# Altium integrated library Capacitor - Aluminium TH.IntLib: 4591 symbols (part 64 of 68)
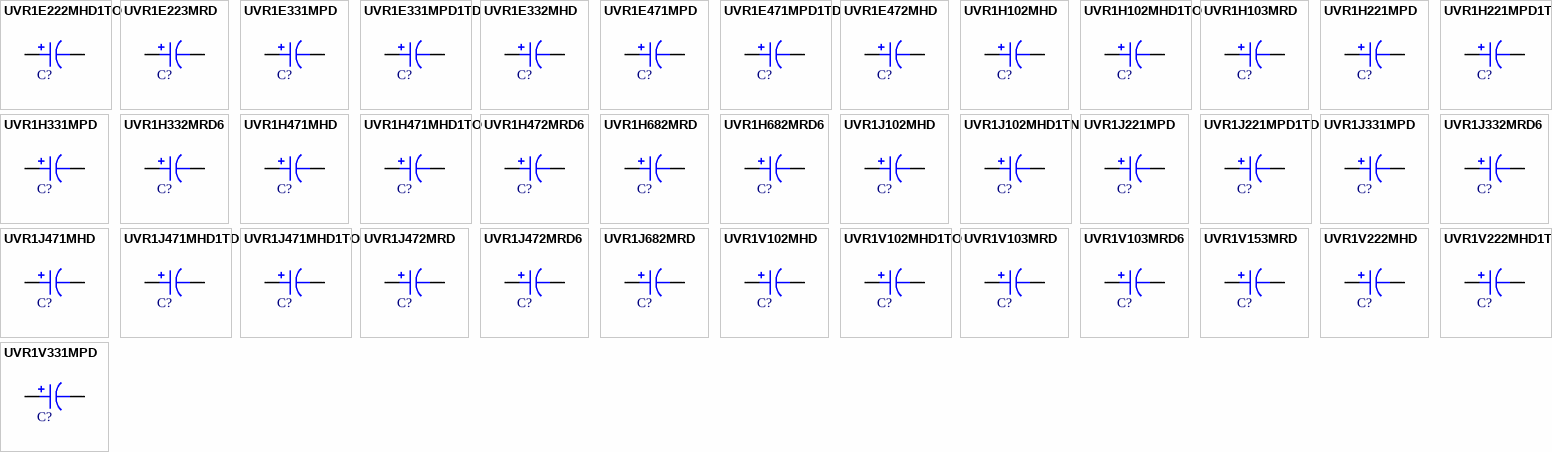
[diagram p177: symbols UVR1E222MHD1TO to UVR1V331MPD]

## UVR1V102MHD1TO
designator C?, comment 1000uF  (value not drawn)
CAP ALUM 1000UF 20% 35V RADIAL; Part Number: UVR1V102MHD1TO; Manufacturer: Nichicon; TemperatureRange: -40C ~ 85C; Type: Polar; Ripple Current: 1.15A; Value: 1000uF; PartId: 23125; Supplier 1: Digi-Key; Supplier Part Number 1: 493-5926-3-ND; ComponentLink1Description: Datasheet; ComponentLink1URL: http://nichicon-us.com/english/products/pdfs/e-uvr.pdf; ComponentLink2Description: Digi-Key Listing; ComponentLink2URL: https://www.digikey.com/product-detail/en/nichicon/UVR1V102MHD1TO/493-5926-3-ND/3438559; Tolerance: 20%; Voltage: 35V; Price: 0.2206; Device Package: Radial, Can, 12.5mm
footprint CAP AL TH D12.5 L5 H22
pins: 1, 2

## UVR1V103MRD
designator C?, comment 10000uF  (value not drawn)
CAP ALUM 10000UF 20% 35V RADIAL; Part Number: UVR1V103MRD; Manufacturer: Nichicon; TemperatureRange: -40C ~ 85C; Type: Polar; Ripple Current: 3.7A; Value: 10000uF; PartId: 27619; Supplier 1: Digi-Key; Supplier Part Number 1: 493-1092-ND; ComponentLink1Description: Datasheet; ComponentLink1URL: http://nichicon-us.com/english/products/pdfs/e-uvr.pdf; ComponentLink2Description: Digi-Key Listing; ComponentLink2URL: https://www.digikey.com/product-detail/en/nichicon/UVR1V103MRD/493-1092-ND/588833; Tolerance: 20%; Voltage: 35V; Price: 3.61; Device Package: Radial, Can, 22mm
footprint CAP AL TH D22 L10 H53
pins: 1, 2

## UVR1V103MRD6
designator C?, comment 10000uF  (value not drawn)
CAP ALUM 10000UF 20% 35V RADIAL; Part Number: UVR1V103MRD6; Manufacturer: Nichicon; TemperatureRange: -40C ~ 85C; Type: Polar; Ripple Current: 3.6A; Value: 10000uF; PartId: 27482; Supplier 1: Digi-Key; Supplier Part Number 1: 493-1093-ND; ComponentLink1Description: Datasheet; ComponentLink1URL: http://nichicon-us.com/english/products/pdfs/e-uvr.pdf; ComponentLink2Description: Digi-Key Listing; ComponentLink2URL: https://www.digikey.com/product-detail/en/nichicon/UVR1V103MRD6/493-1093-ND/588834; Tolerance: 20%; Voltage: 35V; Price: 3.74; Device Package: Radial, Can, 25mm
footprint CAP AL TH D25 L12.5 H42
pins: 1, 2

## UVR1V153MRD
designator C?, comment 15000uF  (value not drawn)
CAP ALUM 15000UF 20% 35V RADIAL; Part Number: UVR1V153MRD; Manufacturer: Nichicon; TemperatureRange: -40C ~ 85C; Type: Polar; Ripple Current: 4.3A; Value: 15000uF; PartId: 27498; Supplier 1: Digi-Key; Supplier Part Number 1: 493-1094-ND; ComponentLink1Description: Datasheet; ComponentLink1URL: http://nichicon-us.com/english/products/pdfs/e-uvr.pdf; ComponentLink2Description: Digi-Key Listing; ComponentLink2URL: https://www.digikey.com/product-detail/en/nichicon/UVR1V153MRD/493-1094-ND/588835; Tolerance: 20%; Voltage: 35V; Price: 3.84; Device Package: Radial, Can, 25mm
footprint CAP AL TH D25 L12.5 H52
pins: 1, 2

## UVR1V222MHD
designator C?, comment 2200uF  (value not drawn)
CAP ALUM 2200UF 20% 35V RADIAL; Part Number: UVR1V222MHD; Manufacturer: Nichicon; TemperatureRange: -40C ~ 85C; Type: Polar; Ripple Current: 1.8A; Value: 2200uF; PartId: 26825; Supplier 1: Digi-Key; Supplier Part Number 1: 493-1086-ND; ComponentLink1Description: Datasheet; ComponentLink1URL: http://nichicon-us.com/english/products/pdfs/e-uvr.pdf; ComponentLink2Description: Digi-Key Listing; ComponentLink2URL: https://www.digikey.com/product-detail/en/nichicon/UVR1V222MHD/493-1086-ND/588827; Tolerance: 20%; Voltage: 35V; Price: 0.98; Device Package: Radial, Can, 16mm
footprint CAP AL TH D16 L7.5 H27
pins: 1, 2

## UVR1V222MHD1TN
designator C?, comment 2200uF  (value not drawn)
CAP ALUM 2200UF 20% 35V RADIAL; Part Number: UVR1V222MHD1TN; Manufacturer: Nichicon; TemperatureRange: -40C ~ 85C; Type: Polar; Ripple Current: 1.8A; Value: 2200uF; PartId: 26737; Supplier 1: Digi-Key; Supplier Part Number 1: 493-12807-3-ND; ComponentLink1Description: Datasheet; ComponentLink1URL: http://nichicon-us.com/english/products/pdfs/e-uvr.pdf; ComponentLink2Description: Digi-Key Listing; ComponentLink2URL: https://www.digikey.com/product-detail/en/nichicon/UVR1V222MHD1TN/493-12807-3-ND/4329006; Tolerance: 20%; Voltage: 35V; Price: 0.4832; Device Package: Radial, Can, 16mm
footprint CAP AL TH D16 L7.5 H27
pins: 1, 2

## UVR1V331MPD
designator C?, comment 330uF  (value not drawn)
CAP ALUM 330UF 20% 35V RADIAL; Part Number: UVR1V331MPD; Manufacturer: Nichicon; TemperatureRange: -40C ~ 85C; Type: Polar; Ripple Current: 490mA; Value: 330uF; PartId: 24697; Supplier 1: Digi-Key; Supplier Part Number 1: 493-1083-ND; ComponentLink1Description: Datasheet; ComponentLink1URL: http://nichicon-us.com/english/products/pdfs/e-uvr.pdf; ComponentLink2Description: Digi-Key Listing; ComponentLink2URL: https://www.digikey.com/product-detail/en/nichicon/UVR1V331MPD/493-1083-ND/588824; Tolerance: 20%; Voltage: 35V; Price: 0.37; Device Package: Radial, Can, 10mm
footprint CAP AL TH D10 L5 H14.5
pins: 1, 2

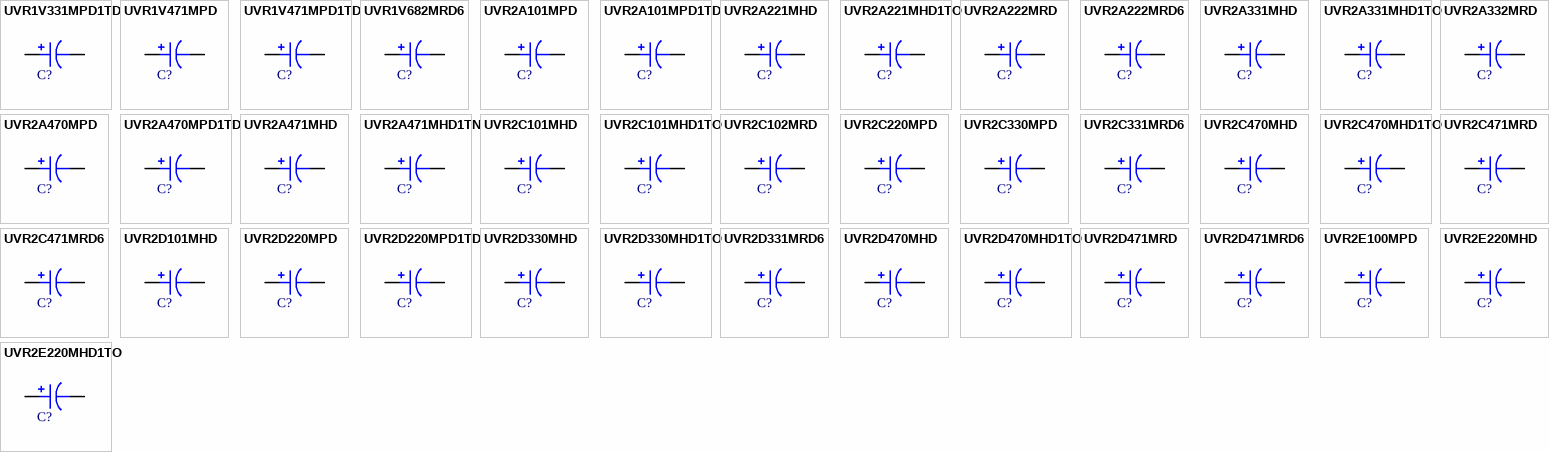
[diagram p107: symbols UVR1V331MPD1TD to UVR2E220MHD1TO]

## UVR1V331MPD1TD
designator C?, comment 330uF  (value not drawn)
CAP ALUM 330UF 20% 35V RADIAL; Part Number: UVR1V331MPD1TD; Manufacturer: Nichicon; TemperatureRange: -40C ~ 85C; Type: Polar; Ripple Current: 490mA; Value: 330uF; PartId: 24502; Supplier 1: Digi-Key; Supplier Part Number 1: 493-5929-3-ND; ComponentLink1Description: Datasheet; ComponentLink1URL: http://nichicon-us.com/english/products/pdfs/e-uvr.pdf; ComponentLink2Description: Digi-Key Listing; ComponentLink2URL: https://www.digikey.com/product-detail/en/nichicon/UVR1V331MPD1TD/493-5929-3-ND/3438562; Tolerance: 20%; Voltage: 35V; Price: 0.1147; Device Package: Radial, Can, 10mm
footprint CAP AL TH D10 L5 H14.5
pins: 1, 2

## UVR1V471MPD
designator C?, comment 470uF  (value not drawn)
CAP ALUM 470UF 20% 35V RADIAL; Part Number: UVR1V471MPD; Manufacturer: Nichicon; TemperatureRange: -40C ~ 85C; Type: Polar; Ripple Current: 650mA; Value: 470uF; PartId: 25159; Supplier 1: Digi-Key; Supplier Part Number 1: 493-1084-ND; ComponentLink1Description: Datasheet; ComponentLink1URL: http://nichicon-us.com/english/products/pdfs/e-uvr.pdf; ComponentLink2Description: Digi-Key Listing; ComponentLink2URL: https://www.digikey.com/product-detail/en/nichicon/UVR1V471MPD/493-1084-ND/588825; Tolerance: 20%; Voltage: 35V; Price: 0.44; Device Package: Radial, Can, 10mm
footprint CAP AL TH D10 L5 H17.5
pins: 1, 2

## UVR1V471MPD1TD
designator C?, comment 470uF  (value not drawn)
CAP ALUM 470UF 20% 35V RADIAL; Part Number: UVR1V471MPD1TD; Manufacturer: Nichicon; TemperatureRange: -40C ~ 85C; Type: Polar; Ripple Current: 650mA; Value: 470uF; PartId: 24992; Supplier 1: Digi-Key; Supplier Part Number 1: 493-5931-3-ND; ComponentLink1Description: Datasheet; ComponentLink1URL: http://nichicon-us.com/english/products/pdfs/e-uvr.pdf; ComponentLink2Description: Digi-Key Listing; ComponentLink2URL: https://www.digikey.com/product-detail/en/nichicon/UVR1V471MPD1TD/493-5931-3-ND/3438564; Tolerance: 20%; Voltage: 35V; Price: 0.1363; Device Package: Radial, Can, 10mm
footprint CAP AL TH D10 L5 H17.5
pins: 1, 2

## UVR1V682MRD6
designator C?, comment 6800uF  (value not drawn)
CAP ALUM 6800UF 20% 35V RADIAL; Part Number: UVR1V682MRD6; Manufacturer: Nichicon; TemperatureRange: -40C ~ 85C; Type: Polar; Ripple Current: 2.9A; Value: 6800uF; PartId: 27476; Supplier 1: Digi-Key; Supplier Part Number 1: 493-1091-ND; ComponentLink1Description: Datasheet; ComponentLink1URL: http://nichicon-us.com/english/products/pdfs/e-uvr.pdf; ComponentLink2Description: Digi-Key Listing; ComponentLink2URL: https://www.digikey.com/product-detail/en/nichicon/UVR1V682MRD6/493-1091-ND/588832; Tolerance: 20%; Voltage: 35V; Price: 3.1; Device Package: Radial, Can, 25mm
footprint CAP AL TH D25 L12.5 H32
pins: 1, 2

## UVR2A101MPD
designator C?, comment 100uF  (value not drawn)
CAP ALUM 100UF 20% 100V RADIAL; Part Number: UVR2A101MPD; Manufacturer: Nichicon; TemperatureRange: -40C ~ 85C; Type: Polar; Ripple Current: 370mA; Value: 100uF; PartId: 25842; Supplier 1: Digi-Key; Supplier Part Number 1: 493-1148-ND; ComponentLink1Description: Datasheet; ComponentLink1URL: http://nichicon-us.com/english/products/pdfs/e-uvr.pdf; ComponentLink2Description: Digi-Key Listing; ComponentLink2URL: https://www.digikey.com/product-detail/en/nichicon/UVR2A101MPD/493-1148-ND/588889; Tolerance: 20%; Voltage: 100V; Price: 0.5; Device Package: Radial, Can, 10mm
footprint CAP AL TH D10 L5 H22
pins: 1, 2

## UVR2A101MPD1TD
designator C?, comment 100uF  (value not drawn)
CAP ALUM 100UF 20% 100V RADIAL; Part Number: UVR2A101MPD1TD; Manufacturer: Nichicon; TemperatureRange: -40C ~ 85C; Type: Polar; Ripple Current: 370mA; Value: 100uF; PartId: 25730; Supplier 1: Digi-Key; Supplier Part Number 1: 493-12814-3-ND; ComponentLink1Description: Datasheet; ComponentLink1URL: http://nichicon-us.com/english/products/pdfs/e-uvr.pdf; ComponentLink2Description: Digi-Key Listing; ComponentLink2URL: https://www.digikey.com/product-detail/en/nichicon/UVR2A101MPD1TD/493-12814-3-ND/4329013; Tolerance: 20%; Voltage: 100V; Price: 0.1712; Device Package: Radial, Can, 10mm
footprint CAP AL TH D10 L5 H22
pins: 1, 2

## UVR2A221MHD
designator C?, comment 220uF  (value not drawn)
CAP ALUM 220UF 20% 100V RADIAL; Part Number: UVR2A221MHD; Manufacturer: Nichicon; TemperatureRange: -40C ~ 85C; Type: Polar; Ripple Current: 620mA; Value: 220uF; PartId: 23884; Supplier 1: Digi-Key; Supplier Part Number 1: 493-1149-ND; ComponentLink1Description: Datasheet; ComponentLink1URL: http://nichicon-us.com/english/products/pdfs/e-uvr.pdf; ComponentLink2Description: Digi-Key Listing; ComponentLink2URL: https://www.digikey.com/product-detail/en/nichicon/UVR2A221MHD/493-1149-ND/588890; Tolerance: 20%; Voltage: 100V; Price: 0.84; Device Package: Radial, Can, 12.5mm
footprint CAP AL TH D12.5 L5 H27
pins: 1, 2

## UVR2A221MHD1TO
designator C?, comment 220uF  (value not drawn)
CAP ALUM 220UF 20% 100V RADIAL; Part Number: UVR2A221MHD1TO; Manufacturer: Nichicon; TemperatureRange: -40C ~ 85C; Type: Polar; Ripple Current: 620mA; Value: 220uF; PartId: 23799; Supplier 1: Digi-Key; Supplier Part Number 1: 493-12816-3-ND; ComponentLink1Description: Datasheet; ComponentLink1URL: http://nichicon-us.com/english/products/pdfs/e-uvr.pdf; ComponentLink2Description: Digi-Key Listing; ComponentLink2URL: https://www.digikey.com/product-detail/en/nichicon/UVR2A221MHD1TO/493-12816-3-ND/4329015; Tolerance: 20%; Voltage: 100V; Price: 0.3378; Device Package: Radial, Can, 12.5mm
footprint CAP AL TH D12.5 L5 H27
pins: 1, 2

## UVR2A222MRD
designator C?, comment 2200uF  (value not drawn)
CAP ALUM 2200UF 20% 100V RADIAL; Part Number: UVR2A222MRD; Manufacturer: Nichicon; TemperatureRange: -40C ~ 85C; Type: Polar; Ripple Current: 2.4A; Value: 2200uF; PartId: 27612; Supplier 1: Digi-Key; Supplier Part Number 1: 493-1153-ND; ComponentLink1Description: Datasheet; ComponentLink1URL: http://nichicon-us.com/english/products/pdfs/e-uvr.pdf; ComponentLink2Description: Digi-Key Listing; ComponentLink2URL: https://www.digikey.com/product-detail/en/nichicon/UVR2A222MRD/493-1153-ND/588894; Tolerance: 20%; Voltage: 100V; Price: 4.05; Device Package: Radial, Can, 22mm
footprint CAP AL TH D22 L10 H53
pins: 1, 2

## UVR2A222MRD6
designator C?, comment 2200uF  (value not drawn)
CAP ALUM 2200UF 20% 100V RADIAL; Part Number: UVR2A222MRD6; Manufacturer: Nichicon; TemperatureRange: -40C ~ 85C; Type: Polar; Ripple Current: 2.4A; Value: 2200uF; PartId: 27483; Supplier 1: Digi-Key; Supplier Part Number 1: 493-1154-ND; ComponentLink1Description: Datasheet; ComponentLink1URL: http://nichicon-us.com/english/products/pdfs/e-uvr.pdf; ComponentLink2Description: Digi-Key Listing; ComponentLink2URL: https://www.digikey.com/product-detail/en/nichicon/UVR2A222MRD6/493-1154-ND/588895; Tolerance: 20%; Voltage: 100V; Price: 4.05; Device Package: Radial, Can, 25mm
footprint CAP AL TH D25 L12.5 H42
pins: 1, 2

## UVR2A331MHD
designator C?, comment 330uF  (value not drawn)
CAP ALUM 330UF 20% 100V RADIAL; Part Number: UVR2A331MHD; Manufacturer: Nichicon; TemperatureRange: -40C ~ 85C; Type: Polar; Ripple Current: 760mA; Value: 330uF; PartId: 23538; Supplier 1: Digi-Key; Supplier Part Number 1: 493-1150-ND; ComponentLink1Description: Datasheet; ComponentLink1URL: http://nichicon-us.com/english/products/pdfs/e-uvr.pdf; ComponentLink2Description: Digi-Key Listing; ComponentLink2URL: https://www.digikey.com/product-detail/en/nichicon/UVR2A331MHD/493-1150-ND/588891; Tolerance: 20%; Voltage: 100V; Price: 0.75; Device Package: Radial, Can, 12.5mm
footprint CAP AL TH D12.5 L5 H25
pins: 1, 2

## UVR2A331MHD1TO
designator C?, comment 330uF  (value not drawn)
CAP ALUM 330UF 20% 100V RADIAL; Part Number: UVR2A331MHD1TO; Manufacturer: Nichicon; TemperatureRange: -40C ~ 85C; Type: Polar; Ripple Current: 760mA; Value: 330uF; PartId: 24048; Supplier 1: Digi-Key; Supplier Part Number 1: 493-12819-1-ND; ComponentLink1Description: Datasheet; ComponentLink1URL: http://nichicon-us.com/english/products/pdfs/e-uvr.pdf; ComponentLink2Description: Digi-Key Listing; ComponentLink2URL: https://www.digikey.com/product-detail/en/nichicon/UVR2A331MHD1TO/493-12819-1-ND/4328387; Tolerance: 20%; Voltage: 100V; Price: 1.14; Device Package: Radial, Can, 12.5mm
footprint CAP AL TH D12.5 L5 H27
pins: 1, 2

## UVR2A332MRD
designator C?, comment 3300uF  (value not drawn)
CAP ALUM 3300UF 20% 100V RADIAL; Part Number: UVR2A332MRD; Manufacturer: Nichicon; TemperatureRange: -40C ~ 85C; Type: Polar; Ripple Current: 2.9A; Value: 3300uF; PartId: 27500; Supplier 1: Digi-Key; Supplier Part Number 1: 493-1155-ND; ComponentLink1Description: Datasheet; ComponentLink1URL: http://nichicon-us.com/english/products/pdfs/e-uvr.pdf; ComponentLink2Description: Digi-Key Listing; ComponentLink2URL: https://www.digikey.com/product-detail/en/nichicon/UVR2A332MRD/493-1155-ND/588896; Tolerance: 20%; Voltage: 100V; Price: 5.9; Device Package: Radial, Can, 25mm
footprint CAP AL TH D25 L12.5 H52
pins: 1, 2

## UVR2A470MPD
designator C?, comment 47uF  (value not drawn)
CAP ALUM 47UF 20% 100V RADIAL; Part Number: UVR2A470MPD; Manufacturer: Nichicon; TemperatureRange: -40C ~ 85C; Type: Polar; Ripple Current: 230mA; Value: 47uF; PartId: 24684; Supplier 1: Digi-Key; Supplier Part Number 1: 493-1147-ND; ComponentLink1Description: Datasheet; ComponentLink1URL: http://nichicon-us.com/english/products/pdfs/e-uvr.pdf; ComponentLink2Description: Digi-Key Listing; ComponentLink2URL: https://www.digikey.com/product-detail/en/nichicon/UVR2A470MPD/493-1147-ND/588888; Tolerance: 20%; Voltage: 100V; Price: 0.34; Device Package: Radial, Can, 10mm
footprint CAP AL TH D10 L5 H14.5
pins: 1, 2

## UVR2A470MPD1TD
designator C?, comment 47uF  (value not drawn)
CAP ALUM 47UF 20% 100V RADIAL; Part Number: UVR2A470MPD1TD; Manufacturer: Nichicon; TemperatureRange: -40C ~ 85C; Type: Polar; Ripple Current: 230mA; Value: 47uF; PartId: 24494; Supplier 1: Digi-Key; Supplier Part Number 1: 493-12821-3-ND; ComponentLink1Description: Datasheet; ComponentLink1URL: http://nichicon-us.com/english/products/pdfs/e-uvr.pdf; ComponentLink2Description: Digi-Key Listing; ComponentLink2URL: https://www.digikey.com/product-detail/en/nichicon/UVR2A470MPD1TD/493-12821-3-ND/4329020; Tolerance: 20%; Voltage: 100V; Price: 0.1057; Device Package: Radial, Can, 10mm
footprint CAP AL TH D10 L5 H14.5
pins: 1, 2

## UVR2A471MHD
designator C?, comment 470uF  (value not drawn)
CAP ALUM 470UF 20% 100V RADIAL; Part Number: UVR2A471MHD; Manufacturer: Nichicon; TemperatureRange: -40C ~ 85C; Type: Polar; Ripple Current: 1A; Value: 470uF; PartId: 26856; Supplier 1: Digi-Key; Supplier Part Number 1: 493-1151-ND; ComponentLink1Description: Datasheet; ComponentLink1URL: http://nichicon-us.com/english/products/pdfs/e-uvr.pdf; ComponentLink2Description: Digi-Key Listing; ComponentLink2URL: https://www.digikey.com/product-detail/en/nichicon/UVR2A471MHD/493-1151-ND/588892; Tolerance: 20%; Voltage: 100V; Price: 1.17; Device Package: Radial, Can, 16mm
footprint CAP AL TH D16 L7.5 H27
pins: 1, 2

## UVR2A471MHD1TN
designator C?, comment 470uF  (value not drawn)
CAP ALUM 470UF 20% 100V RADIAL; Part Number: UVR2A471MHD1TN; Manufacturer: Nichicon; TemperatureRange: -40C ~ 85C; Type: Polar; Ripple Current: 1A; Value: 470uF; PartId: 26771; Supplier 1: Digi-Key; Supplier Part Number 1: 493-12822-3-ND; ComponentLink1Description: Datasheet; ComponentLink1URL: http://nichicon-us.com/english/products/pdfs/e-uvr.pdf; ComponentLink2Description: Digi-Key Listing; ComponentLink2URL: https://www.digikey.com/product-detail/en/nichicon/UVR2A471MHD1TN/493-12822-3-ND/4329021; Tolerance: 20%; Voltage: 100V; Price: 0.6184; Device Package: Radial, Can, 16mm
footprint CAP AL TH D16 L7.5 H27
pins: 1, 2

## UVR2C101MHD
designator C?, comment 100uF  (value not drawn)
CAP ALUM 100UF 20% 160V RADIAL; Part Number: UVR2C101MHD; Manufacturer: Nichicon; TemperatureRange: -40C ~ 85C; Type: Polar; Ripple Current: 430mA; Value: 100uF; PartId: 23871; Supplier 1: Digi-Key; Supplier Part Number 1: 493-1165-ND; ComponentLink1Description: Datasheet; ComponentLink1URL: http://nichicon-us.com/english/products/pdfs/e-uvr.pdf; ComponentLink2Description: Digi-Key Listing; ComponentLink2URL: https://www.digikey.com/product-detail/en/nichicon/UVR2C101MHD/493-1165-ND/588906; Tolerance: 20%; Voltage: 160V; Price: 0.81; Device Package: Radial, Can, 12.5mm
footprint CAP AL TH D12.5 L5 H27
pins: 1, 2

## UVR2C101MHD1TO
designator C?, comment 100uF  (value not drawn)
CAP ALUM 100UF 20% 160V RADIAL; Part Number: UVR2C101MHD1TO; Manufacturer: Nichicon; TemperatureRange: -40C ~ 85C; Type: Polar; Ripple Current: 430mA; Value: 100uF; PartId: 23800; Supplier 1: Digi-Key; Supplier Part Number 1: 493-12829-3-ND; ComponentLink1Description: Datasheet; ComponentLink1URL: http://nichicon-us.com/english/products/pdfs/e-uvr.pdf; ComponentLink2Description: Digi-Key Listing; ComponentLink2URL: https://www.digikey.com/product-detail/en/nichicon/UVR2C101MHD1TO/493-12829-3-ND/4329028; Tolerance: 20%; Voltage: 160V; Price: 0.3398; Device Package: Radial, Can, 12.5mm
footprint CAP AL TH D12.5 L5 H27
pins: 1, 2

## UVR2C102MRD
designator C?, comment 1000uF  (value not drawn)
CAP ALUM 1000UF 20% 160V RADIAL; Part Number: UVR2C102MRD; Manufacturer: Nichicon; TemperatureRange: -40C ~ 85C; Type: Polar; Ripple Current: 1.9A; Value: 1000uF; PartId: 27517; Supplier 1: Digi-Key; Supplier Part Number 1: 493-1171-ND; ComponentLink1Description: Datasheet; ComponentLink1URL: http://nichicon-us.com/english/products/pdfs/e-uvr.pdf; ComponentLink2Description: Digi-Key Listing; ComponentLink2URL: https://www.digikey.com/product-detail/en/nichicon/UVR2C102MRD/493-1171-ND/588912; Tolerance: 20%; Voltage: 160V; Price: 4.45; Device Package: Radial, Can, 25mm
footprint CAP AL TH D25 L12.5 H52
pins: 1, 2

## UVR2C220MPD
designator C?, comment 22uF  (value not drawn)
CAP ALUM 22UF 20% 160V RADIAL; Part Number: UVR2C220MPD; Manufacturer: Nichicon; TemperatureRange: -40C ~ 85C; Type: Polar; Ripple Current: 155mA; Value: 22uF; PartId: 25188; Supplier 1: Digi-Key; Supplier Part Number 1: 493-1162-ND; ComponentLink1Description: Datasheet; ComponentLink1URL: http://nichicon-us.com/english/products/pdfs/e-uvr.pdf; ComponentLink2Description: Digi-Key Listing; ComponentLink2URL: https://www.digikey.com/product-detail/en/nichicon/UVR2C220MPD/493-1162-ND/588903; Tolerance: 20%; Voltage: 160V; Price: 0.48; Device Package: Radial, Can, 10mm
footprint CAP AL TH D10 L5 H17.5
pins: 1, 2

## UVR2C330MPD
designator C?, comment 33uF  (value not drawn)
CAP ALUM 33UF 20% 160V RADIAL; Part Number: UVR2C330MPD; Manufacturer: Nichicon; TemperatureRange: -40C ~ 85C; Type: Polar; Ripple Current: 205mA; Value: 33uF; PartId: 25843; Supplier 1: Digi-Key; Supplier Part Number 1: 493-1163-ND; ComponentLink1Description: Datasheet; ComponentLink1URL: http://nichicon-us.com/english/products/pdfs/e-uvr.pdf; ComponentLink2Description: Digi-Key Listing; ComponentLink2URL: https://www.digikey.com/product-detail/en/nichicon/UVR2C330MPD/493-1163-ND/588904; Tolerance: 20%; Voltage: 160V; Price: 0.5; Device Package: Radial, Can, 10mm
footprint CAP AL TH D10 L5 H22
pins: 1, 2

## UVR2C331MRD6
designator C?, comment 330uF  (value not drawn)
CAP ALUM 330UF 20% 160V RADIAL; Part Number: UVR2C331MRD6; Manufacturer: Nichicon; TemperatureRange: -40C ~ 85C; Type: Polar; Ripple Current: 900mA; Value: 330uF; PartId: 27569; Supplier 1: Digi-Key; Supplier Part Number 1: 493-1168-ND; ComponentLink1Description: Datasheet; ComponentLink1URL: http://nichicon-us.com/english/products/pdfs/e-uvr.pdf; ComponentLink2Description: Digi-Key Listing; ComponentLink2URL: https://www.digikey.com/product-detail/en/nichicon/UVR2C331MRD6/493-1168-ND/588909; Tolerance: 20%; Voltage: 160V; Price: 2.26; Device Package: Radial, Can, 22mm
footprint CAP AL TH D22 L10 H33
pins: 1, 2

## UVR2C470MHD
designator C?, comment 47uF  (value not drawn)
CAP ALUM 47UF 20% 160V RADIAL; Part Number: UVR2C470MHD; Manufacturer: Nichicon; TemperatureRange: -40C ~ 85C; Type: Polar; Ripple Current: 270mA; Value: 47uF; PartId: 23209; Supplier 1: Digi-Key; Supplier Part Number 1: 493-1164-ND; ComponentLink1Description: Datasheet; ComponentLink1URL: http://nichicon-us.com/english/products/pdfs/e-uvr.pdf; ComponentLink2Description: Digi-Key Listing; ComponentLink2URL: https://www.digikey.com/product-detail/en/nichicon/UVR2C470MHD/493-1164-ND/588905; Tolerance: 20%; Voltage: 160V; Price: 0.61; Device Package: Radial, Can, 12.5mm
footprint CAP AL TH D12.5 L5 H22
pins: 1, 2

## UVR2C470MHD1TO
designator C?, comment 47uF  (value not drawn)
CAP ALUM 47UF 20% 160V RADIAL; Part Number: UVR2C470MHD1TO; Manufacturer: Nichicon; TemperatureRange: -40C ~ 85C; Type: Polar; Ripple Current: 270mA; Value: 47uF; PartId: 23240; Supplier 1: Digi-Key; Supplier Part Number 1: 493-12834-1-ND; ComponentLink1Description: Datasheet; ComponentLink1URL: http://nichicon-us.com/english/products/pdfs/e-uvr.pdf; ComponentLink2Description: Digi-Key Listing; ComponentLink2URL: https://www.digikey.com/product-detail/en/nichicon/UVR2C470MHD1TO/493-12834-1-ND/4328414; Tolerance: 20%; Voltage: 160V; Price: 0.68; Device Package: Radial, Can, 12.5mm
footprint CAP AL TH D12.5 L5 H22
pins: 1, 2

## UVR2C471MRD
designator C?, comment 470uF  (value not drawn)
CAP ALUM 470UF 20% 160V RADIAL; Part Number: UVR2C471MRD; Manufacturer: Nichicon; TemperatureRange: -40C ~ 85C; Type: Polar; Ripple Current: 1.41A; Value: 470uF; PartId: 27588; Supplier 1: Digi-Key; Supplier Part Number 1: 493-1169-ND; ComponentLink1Description: Datasheet; ComponentLink1URL: http://nichicon-us.com/english/products/pdfs/e-uvr.pdf; ComponentLink2Description: Digi-Key Listing; ComponentLink2URL: https://www.digikey.com/product-detail/en/nichicon/UVR2C471MRD/493-1169-ND/588910; Tolerance: 20%; Voltage: 160V; Price: 2.82; Device Package: Radial, Can, 22mm
footprint CAP AL TH D22 L10 H43
pins: 1, 2

## UVR2C471MRD6
designator C?, comment 470uF  (value not drawn)
CAP ALUM 470UF 20% 160V RADIAL; Part Number: UVR2C471MRD6; Manufacturer: Nichicon; TemperatureRange: -40C ~ 85C; Type: Polar; Ripple Current: 1.29A; Value: 470uF; PartId: 27481; Supplier 1: Digi-Key; Supplier Part Number 1: 493-1170-ND; ComponentLink1Description: Datasheet; ComponentLink1URL: http://nichicon-us.com/english/products/pdfs/e-uvr.pdf; ComponentLink2Description: Digi-Key Listing; ComponentLink2URL: https://www.digikey.com/product-detail/en/nichicon/UVR2C471MRD6/493-1170-ND/588911; Tolerance: 20%; Voltage: 160V; Price: 3.07; Device Package: Radial, Can, 25mm
footprint CAP AL TH D25 L12.5 H32
pins: 1, 2

## UVR2D101MHD
designator C?, comment 100uF  (value not drawn)
CAP ALUM 100UF 20% 200V RADIAL; Part Number: UVR2D101MHD; Manufacturer: Nichicon; TemperatureRange: -40C ~ 85C; Type: Polar; Ripple Current: 530mA; Value: 100uF; PartId: 27007; Supplier 1: Digi-Key; Supplier Part Number 1: 493-1181-ND; ComponentLink1Description: Datasheet; ComponentLink1URL: http://nichicon-us.com/english/products/pdfs/e-uvr.pdf; ComponentLink2Description: Digi-Key Listing; ComponentLink2URL: https://www.digikey.com/product-detail/en/nichicon/UVR2D101MHD/493-1181-ND/588922; Tolerance: 20%; Voltage: 200V; Price: 1.38; Device Package: Radial, Can, 16mm
footprint CAP AL TH D16 L7.5 H33.5
pins: 1, 2

## UVR2D220MPD
designator C?, comment 22uF  (value not drawn)
CAP ALUM 22UF 20% 200V RADIAL; Part Number: UVR2D220MPD; Manufacturer: Nichicon; TemperatureRange: -40C ~ 85C; Type: Polar; Ripple Current: 170mA; Value: 22uF; PartId: 25838; Supplier 1: Digi-Key; Supplier Part Number 1: 493-1178-ND; ComponentLink1Description: Datasheet; ComponentLink1URL: http://nichicon-us.com/english/products/pdfs/e-uvr.pdf; ComponentLink2Description: Digi-Key Listing; ComponentLink2URL: https://www.digikey.com/product-detail/en/nichicon/UVR2D220MPD/493-1178-ND/588919; Tolerance: 20%; Voltage: 200V; Price: 0.45; Device Package: Radial, Can, 10mm
footprint CAP AL TH D10 L5 H22
pins: 1, 2

## UVR2D220MPD1TD
designator C?, comment 22uF  (value not drawn)
CAP ALUM 22UF 20% 200V RADIAL; Part Number: UVR2D220MPD1TD; Manufacturer: Nichicon; TemperatureRange: -40C ~ 85C; Type: Polar; Ripple Current: 170mA; Value: 22uF; PartId: 25728; Supplier 1: Digi-Key; Supplier Part Number 1: 493-12838-3-ND; ComponentLink1Description: Datasheet; ComponentLink1URL: http://nichicon-us.com/english/products/pdfs/e-uvr.pdf; ComponentLink2Description: Digi-Key Listing; ComponentLink2URL: https://www.digikey.com/product-detail/en/nichicon/UVR2D220MPD1TD/493-12838-3-ND/4329037; Tolerance: 20%; Voltage: 200V; Price: 0.1562; Device Package: Radial, Can, 10mm
footprint CAP AL TH D10 L5 H22
pins: 1, 2

## UVR2D330MHD
designator C?, comment 33uF  (value not drawn)
CAP ALUM 33UF 20% 200V RADIAL; Part Number: UVR2D330MHD; Manufacturer: Nichicon; TemperatureRange: -40C ~ 85C; Type: Polar; Ripple Current: 230mA; Value: 33uF; PartId: 23223; Supplier 1: Digi-Key; Supplier Part Number 1: 493-1179-ND; ComponentLink1Description: Datasheet; ComponentLink1URL: http://nichicon-us.com/english/products/pdfs/e-uvr.pdf; ComponentLink2Description: Digi-Key Listing; ComponentLink2URL: https://www.digikey.com/product-detail/en/nichicon/UVR2D330MHD/493-1179-ND/588920; Tolerance: 20%; Voltage: 200V; Price: 0.64; Device Package: Radial, Can, 12.5mm
footprint CAP AL TH D12.5 L5 H22
pins: 1, 2

## UVR2D330MHD1TO
designator C?, comment 33uF  (value not drawn)
CAP ALUM 33UF 20% 200V RADIAL; Part Number: UVR2D330MHD1TO; Manufacturer: Nichicon; TemperatureRange: -40C ~ 85C; Type: Polar; Ripple Current: 230mA; Value: 33uF; PartId: 23138; Supplier 1: Digi-Key; Supplier Part Number 1: 493-12840-3-ND; ComponentLink1Description: Datasheet; ComponentLink1URL: http://nichicon-us.com/english/products/pdfs/e-uvr.pdf; ComponentLink2Description: Digi-Key Listing; ComponentLink2URL: https://www.digikey.com/product-detail/en/nichicon/UVR2D330MHD1TO/493-12840-3-ND/4329039; Tolerance: 20%; Voltage: 200V; Price: 0.2567; Device Package: Radial, Can, 12.5mm
footprint CAP AL TH D12.5 L5 H22
pins: 1, 2

## UVR2D331MRD6
designator C?, comment 330uF  (value not drawn)
CAP ALUM 330UF 20% 200V RADIAL; Part Number: UVR2D331MRD6; Manufacturer: Nichicon; TemperatureRange: -40C ~ 85C; Type: Polar; Ripple Current: 1.09A; Value: 330uF; PartId: 27475; Supplier 1: Digi-Key; Supplier Part Number 1: 493-1184-ND; ComponentLink1Description: Datasheet; ComponentLink1URL: http://nichicon-us.com/english/products/pdfs/e-uvr.pdf; ComponentLink2Description: Digi-Key Listing; ComponentLink2URL: https://www.digikey.com/product-detail/en/nichicon/UVR2D331MRD6/493-1184-ND/588925; Tolerance: 20%; Voltage: 200V; Price: 3.53; Device Package: Radial, Can, 25mm
footprint CAP AL TH D25 L12.5 H32
pins: 1, 2

## UVR2D470MHD
designator C?, comment 47uF  (value not drawn)
CAP ALUM 47UF 20% 200V RADIAL; Part Number: UVR2D470MHD; Manufacturer: Nichicon; TemperatureRange: -40C ~ 85C; Type: Polar; Ripple Current: 270mA; Value: 47uF; PartId: 23248; Supplier 1: Digi-Key; Supplier Part Number 1: 493-1180-ND; ComponentLink1Description: Datasheet; ComponentLink1URL: http://nichicon-us.com/english/products/pdfs/e-uvr.pdf; ComponentLink2Description: Digi-Key Listing; ComponentLink2URL: https://www.digikey.com/product-detail/en/nichicon/UVR2D470MHD/493-1180-ND/588921; Tolerance: 20%; Voltage: 200V; Price: 0.7; Device Package: Radial, Can, 12.5mm
footprint CAP AL TH D12.5 L5 H22
pins: 1, 2

## UVR2D470MHD1TO
designator C?, comment 47uF  (value not drawn)
CAP ALUM 47UF 20% 200V RADIAL; Part Number: UVR2D470MHD1TO; Manufacturer: Nichicon; TemperatureRange: -40C ~ 85C; Type: Polar; Ripple Current: 270mA; Value: 47uF; PartId: 23132; Supplier 1: Digi-Key; Supplier Part Number 1: 493-12842-3-ND; ComponentLink1Description: Datasheet; ComponentLink1URL: http://nichicon-us.com/english/products/pdfs/e-uvr.pdf; ComponentLink2Description: Digi-Key Listing; ComponentLink2URL: https://www.digikey.com/product-detail/en/nichicon/UVR2D470MHD1TO/493-12842-3-ND/4329041; Tolerance: 20%; Voltage: 200V; Price: 0.2422; Device Package: Radial, Can, 12.5mm
footprint CAP AL TH D12.5 L5 H22
pins: 1, 2

## UVR2D471MRD
designator C?, comment 470uF  (value not drawn)
CAP ALUM 470UF 20% 200V RADIAL; Part Number: UVR2D471MRD; Manufacturer: Nichicon; TemperatureRange: -40C ~ 85C; Type: Polar; Ripple Current: 1.49A; Value: 470uF; PartId: 27637; Supplier 1: Digi-Key; Supplier Part Number 1: 493-1185-ND; ComponentLink1Description: Datasheet; ComponentLink1URL: http://nichicon-us.com/english/products/pdfs/e-uvr.pdf; ComponentLink2Description: Digi-Key Listing; ComponentLink2URL: https://www.digikey.com/product-detail/en/nichicon/UVR2D471MRD/493-1185-ND/588926; Tolerance: 20%; Voltage: 200V; Price: 3.85; Device Package: Radial, Can, 22mm
footprint CAP AL TH D22 L10 H53
pins: 1, 2

## UVR2D471MRD6
designator C?, comment 470uF  (value not drawn)
CAP ALUM 470UF 20% 200V RADIAL; Part Number: UVR2D471MRD6; Manufacturer: Nichicon; TemperatureRange: -40C ~ 85C; Type: Polar; Ripple Current: 1.55A; Value: 470uF; PartId: 27497; Supplier 1: Digi-Key; Supplier Part Number 1: 493-1186-ND; ComponentLink1Description: Datasheet; ComponentLink1URL: http://nichicon-us.com/english/products/pdfs/e-uvr.pdf; ComponentLink2Description: Digi-Key Listing; ComponentLink2URL: https://www.digikey.com/product-detail/en/nichicon/UVR2D471MRD6/493-1186-ND/588927; Tolerance: 20%; Voltage: 200V; Price: 4.1; Device Package: Radial, Can, 25mm
footprint CAP AL TH D25 L12.5 H42
pins: 1, 2

## UVR2E100MPD
designator C?, comment 10uF  (value not drawn)
CAP ALUM 10UF 20% 250V RADIAL; Part Number: UVR2E100MPD; Manufacturer: Nichicon; TemperatureRange: -40C ~ 85C; Type: Polar; Ripple Current: 105mA; Value: 10uF; PartId: 25161; Supplier 1: Digi-Key; Supplier Part Number 1: 493-1192-ND; ComponentLink1Description: Datasheet; ComponentLink1URL: http://nichicon-us.com/english/products/pdfs/e-uvr.pdf; ComponentLink2Description: Digi-Key Listing; ComponentLink2URL: https://www.digikey.com/product-detail/en/nichicon/UVR2E100MPD/493-1192-ND/588933; Tolerance: 20%; Voltage: 250V; Price: 0.44; Device Package: Radial, Can, 10mm
footprint CAP AL TH D10 L5 H17.5
pins: 1, 2

## UVR2E220MHD
designator C?, comment 22uF  (value not drawn)
CAP ALUM 22UF 20% 250V RADIAL; Part Number: UVR2E220MHD; Manufacturer: Nichicon; TemperatureRange: -40C ~ 85C; Type: Polar; Ripple Current: 190mA; Value: 22uF; PartId: 23249; Supplier 1: Digi-Key; Supplier Part Number 1: 493-1193-ND; ComponentLink1Description: Datasheet; ComponentLink1URL: http://nichicon-us.com/english/products/pdfs/e-uvr.pdf; ComponentLink2Description: Digi-Key Listing; ComponentLink2URL: https://www.digikey.com/product-detail/en/nichicon/UVR2E220MHD/493-1193-ND/588934; Tolerance: 20%; Voltage: 250V; Price: 0.7; Device Package: Radial, Can, 12.5mm
footprint CAP AL TH D12.5 L5 H22
pins: 1, 2

## UVR2E220MHD1TO
designator C?, comment 22uF  (value not drawn)
CAP ALUM 22UF 20% 250V RADIAL; Part Number: UVR2E220MHD1TO; Manufacturer: Nichicon; TemperatureRange: -40C ~ 85C; Type: Polar; Ripple Current: 190mA; Value: 22uF; PartId: 23224; Supplier 1: Digi-Key; Supplier Part Number 1: 493-12847-1-ND; ComponentLink1Description: Datasheet; ComponentLink1URL: http://nichicon-us.com/english/products/pdfs/e-uvr.pdf; ComponentLink2Description: Digi-Key Listing; ComponentLink2URL: https://www.digikey.com/product-detail/en/nichicon/UVR2E220MHD1TO/493-12847-1-ND/4328410; Tolerance: 20%; Voltage: 250V; Price: 0.64; Device Package: Radial, Can, 12.5mm
footprint CAP AL TH D12.5 L5 H22
pins: 1, 2

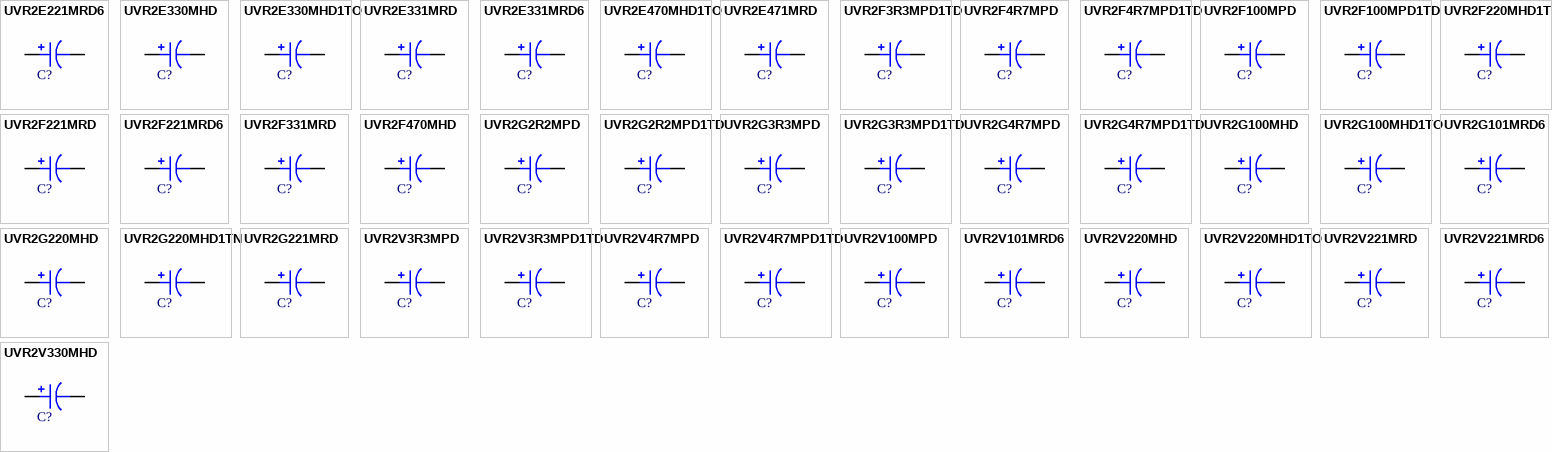
[diagram p108: symbols UVR2E221MRD6 to UVR2V330MHD]

## UVR2E221MRD6
designator C?, comment 220uF  (value not drawn)
CAP ALUM 220UF 20% 250V RADIAL; Part Number: UVR2E221MRD6; Manufacturer: Nichicon; TemperatureRange: -40C ~ 85C; Type: Polar; Ripple Current: 820mA; Value: 220uF; PartId: 27568; Supplier 1: Digi-Key; Supplier Part Number 1: 493-1198-ND; ComponentLink1Description: Datasheet; ComponentLink1URL: http://nichicon-us.com/english/products/pdfs/e-uvr.pdf; ComponentLink2Description: Digi-Key Listing; ComponentLink2URL: https://www.digikey.com/product-detail/en/nichicon/UVR2E221MRD6/493-1198-ND/588939; Tolerance: 20%; Voltage: 250V; Price: 3.4; Device Package: Radial, Can, 22mm
footprint CAP AL TH D22 L10 H33
pins: 1, 2

## UVR2E330MHD
designator C?, comment 33uF  (value not drawn)
CAP ALUM 33UF 20% 250V RADIAL; Part Number: UVR2E330MHD; Manufacturer: Nichicon; TemperatureRange: -40C ~ 85C; Type: Polar; Ripple Current: 230mA; Value: 33uF; PartId: 23268; Supplier 1: Digi-Key; Supplier Part Number 1: 493-1194-ND; ComponentLink1Description: Datasheet; ComponentLink1URL: http://nichicon-us.com/english/products/pdfs/e-uvr.pdf; ComponentLink2Description: Digi-Key Listing; ComponentLink2URL: https://www.digikey.com/product-detail/en/nichicon/UVR2E330MHD/493-1194-ND/588935; Tolerance: 20%; Voltage: 250V; Price: 0.75; Device Package: Radial, Can, 12.5mm
footprint CAP AL TH D12.5 L5 H22
pins: 1, 2

## UVR2E330MHD1TO
designator C?, comment 33uF  (value not drawn)
CAP ALUM 33UF 20% 250V RADIAL; Part Number: UVR2E330MHD1TO; Manufacturer: Nichicon; TemperatureRange: -40C ~ 85C; Type: Polar; Ripple Current: 230mA; Value: 33uF; PartId: 23243; Supplier 1: Digi-Key; Supplier Part Number 1: 493-12849-1-ND; ComponentLink1Description: Datasheet; ComponentLink1URL: http://nichicon-us.com/english/products/pdfs/e-uvr.pdf; ComponentLink2Description: Digi-Key Listing; ComponentLink2URL: https://www.digikey.com/product-detail/en/nichicon/UVR2E330MHD1TO/493-12849-1-ND/4328408; Tolerance: 20%; Voltage: 250V; Price: 0.69; Device Package: Radial, Can, 12.5mm
footprint CAP AL TH D12.5 L5 H22
pins: 1, 2

## UVR2E331MRD
designator C?, comment 330uF  (value not drawn)
CAP ALUM 330UF 20% 250V RADIAL; Part Number: UVR2E331MRD; Manufacturer: Nichicon; TemperatureRange: -40C ~ 85C; Type: Polar; Ripple Current: 1.17A; Value: 330uF; PartId: 27671; Supplier 1: Digi-Key; Supplier Part Number 1: 493-1199-ND; ComponentLink1Description: Datasheet; ComponentLink1URL: http://nichicon-us.com/english/products/pdfs/e-uvr.pdf; ComponentLink2Description: Digi-Key Listing; ComponentLink2URL: https://www.digikey.com/product-detail/en/nichicon/UVR2E331MRD/493-1199-ND/588940; Tolerance: 20%; Voltage: 250V; Price: 3.31; Device Package: Radial, Can, 22mm
footprint CAP AL TH D22 L10 H53
pins: 1, 2

## UVR2E331MRD6
designator C?, comment 330uF  (value not drawn)
CAP ALUM 330UF 20% 250V RADIAL; Part Number: UVR2E331MRD6; Manufacturer: Nichicon; TemperatureRange: -40C ~ 85C; Type: Polar; Ripple Current: 970mA; Value: 330uF; PartId: 27478; Supplier 1: Digi-Key; Supplier Part Number 1: 493-1200-ND; ComponentLink1Description: Datasheet; ComponentLink1URL: http://nichicon-us.com/english/products/pdfs/e-uvr.pdf; ComponentLink2Description: Digi-Key Listing; ComponentLink2URL: https://www.digikey.com/product-detail/en/nichicon/UVR2E331MRD6/493-1200-ND/588941; Tolerance: 20%; Voltage: 250V; Price: 3.31; Device Package: Radial, Can, 25mm
footprint CAP AL TH D25 L12.5 H32
pins: 1, 2

## UVR2E470MHD1TO
designator C?, comment 47uF  (value not drawn)
CAP ALUM 47UF 20% 250V RADIAL; Part Number: UVR2E470MHD1TO; Manufacturer: Nichicon; TemperatureRange: -40C ~ 85C; Type: Polar; Ripple Current: 300mA; Value: 47uF; PartId: 23889; Supplier 1: Digi-Key; Supplier Part Number 1: 493-12851-1-ND; ComponentLink1Description: Datasheet; ComponentLink1URL: http://nichicon-us.com/english/products/pdfs/e-uvr.pdf; ComponentLink2Description: Digi-Key Listing; ComponentLink2URL: https://www.digikey.com/product-detail/en/nichicon/UVR2E470MHD1TO/493-12851-1-ND/4328403; Tolerance: 20%; Voltage: 250V; Price: 0.85; Device Package: Radial, Can, 12.5mm
footprint CAP AL TH D12.5 L5 H27
pins: 1, 2

## UVR2E471MRD
designator C?, comment 470uF  (value not drawn)
CAP ALUM 470UF 20% 250V RADIAL; Part Number: UVR2E471MRD; Manufacturer: Nichicon; TemperatureRange: -40C ~ 85C; Type: Polar; Ripple Current: 1.6A; Value: 470uF; PartId: 27548; Supplier 1: Digi-Key; Supplier Part Number 1: 493-1201-ND; ComponentLink1Description: Datasheet; ComponentLink1URL: http://nichicon-us.com/english/products/pdfs/e-uvr.pdf; ComponentLink2Description: Digi-Key Listing; ComponentLink2URL: https://www.digikey.com/product-detail/en/nichicon/UVR2E471MRD/493-1201-ND/588942; Tolerance: 20%; Voltage: 250V; Price: 3.78; Device Package: Radial, Can, 25mm
footprint CAP AL TH D25 L12.5 H52
pins: 1, 2

## UVR2F3R3MPD1TD
designator C?, comment 3.3uF  (value not drawn)
CAP ALUM 3.3UF 20% 315V RADIAL; Part Number: UVR2F3R3MPD1TD; Manufacturer: Nichicon; TemperatureRange: -40C ~ 85C; Type: Polar; Ripple Current: 55mA; Value: 3.3uF; PartId: 24524; Supplier 1: Digi-Key; Supplier Part Number 1: 493-12859-3-ND; ComponentLink1Description: Datasheet; ComponentLink1URL: http://nichicon-us.com/english/products/pdfs/e-uvr.pdf; ComponentLink2Description: Digi-Key Listing; ComponentLink2URL: https://www.digikey.com/product-detail/en/nichicon/UVR2F3R3MPD1TD/493-12859-3-ND/4329058; Tolerance: 20%; Voltage: 315V; Price: 0.1406; Device Package: Radial, Can, 10mm
footprint CAP AL TH D10 L5 H14.5
pins: 1, 2

## UVR2F4R7MPD
designator C?, comment 4.7uF  (value not drawn)
CAP ALUM 4.7UF 20% 315V RADIAL; Part Number: UVR2F4R7MPD; Manufacturer: Nichicon; TemperatureRange: -40C ~ 85C; Type: Polar; Ripple Current: 65mA; Value: 4.7uF; PartId: 24749; Supplier 1: Digi-Key; Supplier Part Number 1: 493-1205-ND; ComponentLink1Description: Datasheet; ComponentLink1URL: http://nichicon-us.com/english/products/pdfs/e-uvr.pdf; ComponentLink2Description: Digi-Key Listing; ComponentLink2URL: https://www.digikey.com/product-detail/en/nichicon/UVR2F4R7MPD/493-1205-ND/588946; Tolerance: 20%; Voltage: 315V; Price: 0.42; Device Package: Radial, Can, 10mm
footprint CAP AL TH D10 L5 H14.5
pins: 1, 2

## UVR2F4R7MPD1TD
designator C?, comment 4.7uF  (value not drawn)
CAP ALUM 4.7UF 20% 315V RADIAL; Part Number: UVR2F4R7MPD1TD; Manufacturer: Nichicon; TemperatureRange: -40C ~ 85C; Type: Polar; Ripple Current: 65mA; Value: 4.7uF; PartId: 24863; Supplier 1: Digi-Key; Supplier Part Number 1: 493-12861-1-ND; ComponentLink1Description: Datasheet; ComponentLink1URL: http://nichicon-us.com/english/products/pdfs/e-uvr.pdf; ComponentLink2Description: Digi-Key Listing; ComponentLink2URL: https://www.digikey.com/product-detail/en/nichicon/UVR2F4R7MPD1TD/493-12861-1-ND/4328427; Tolerance: 20%; Voltage: 315V; Price: 0.47; Device Package: Radial, Can, 10mm
footprint CAP AL TH D10 L5 H14.5
pins: 1, 2

## UVR2F100MPD
designator C?, comment 10uF  (value not drawn)
CAP ALUM 10UF 20% 315V RADIAL; Part Number: UVR2F100MPD; Manufacturer: Nichicon; TemperatureRange: -40C ~ 85C; Type: Polar; Ripple Current: 115mA; Value: 10uF; PartId: 25856; Supplier 1: Digi-Key; Supplier Part Number 1: 493-1206-ND; ComponentLink1Description: Datasheet; ComponentLink1URL: http://nichicon-us.com/english/products/pdfs/e-uvr.pdf; ComponentLink2Description: Digi-Key Listing; ComponentLink2URL: https://www.digikey.com/product-detail/en/nichicon/UVR2F100MPD/493-1206-ND/588947; Tolerance: 20%; Voltage: 315V; Price: 0.57; Device Package: Radial, Can, 10mm
footprint CAP AL TH D10 L5 H22
pins: 1, 2

## UVR2F100MPD1TD
designator C?, comment 10uF  (value not drawn)
CAP ALUM 10UF 20% 315V RADIAL; Part Number: UVR2F100MPD1TD; Manufacturer: Nichicon; TemperatureRange: -40C ~ 85C; Type: Polar; Ripple Current: 115mA; Value: 10uF; PartId: 25744; Supplier 1: Digi-Key; Supplier Part Number 1: 493-12855-3-ND; ComponentLink1Description: Datasheet; ComponentLink1URL: http://nichicon-us.com/english/products/pdfs/e-uvr.pdf; ComponentLink2Description: Digi-Key Listing; ComponentLink2URL: https://www.digikey.com/product-detail/en/nichicon/UVR2F100MPD1TD/493-12855-3-ND/4329054; Tolerance: 20%; Voltage: 315V; Price: 0.1956; Device Package: Radial, Can, 10mm
footprint CAP AL TH D10 L5 H22
pins: 1, 2

## UVR2F220MHD1TO
designator C?, comment 22uF  (value not drawn)
CAP ALUM 22UF 20% 315V RADIAL; Part Number: UVR2F220MHD1TO; Manufacturer: Nichicon; TemperatureRange: -40C ~ 85C; Type: Polar; Ripple Current: 190mA; Value: 22uF; PartId: 23270; Supplier 1: Digi-Key; Supplier Part Number 1: 493-12856-1-ND; ComponentLink1Description: Datasheet; ComponentLink1URL: http://nichicon-us.com/english/products/pdfs/e-uvr.pdf; ComponentLink2Description: Digi-Key Listing; ComponentLink2URL: https://www.digikey.com/product-detail/en/nichicon/UVR2F220MHD1TO/493-12856-1-ND/4328405; Tolerance: 20%; Voltage: 315V; Price: 0.75; Device Package: Radial, Can, 12.5mm
footprint CAP AL TH D12.5 L5 H22
pins: 1, 2

## UVR2F221MRD
designator C?, comment 220uF  (value not drawn)
CAP ALUM 220UF 20% 315V RADIAL; Part Number: UVR2F221MRD; Manufacturer: Nichicon; TemperatureRange: -40C ~ 85C; Type: Polar; Ripple Current: 850mA; Value: 220uF; PartId: 27639; Supplier 1: Digi-Key; Supplier Part Number 1: 493-1211-ND; ComponentLink1Description: Datasheet; ComponentLink1URL: http://nichicon-us.com/english/products/pdfs/e-uvr.pdf; ComponentLink2Description: Digi-Key Listing; ComponentLink2URL: https://www.digikey.com/product-detail/en/nichicon/UVR2F221MRD/493-1211-ND/588952; Tolerance: 20%; Voltage: 315V; Price: 3.87; Device Package: Radial, Can, 22mm
footprint CAP AL TH D22 L10 H53
pins: 1, 2

## UVR2F221MRD6
designator C?, comment 220uF  (value not drawn)
CAP ALUM 220UF 20% 315V RADIAL; Part Number: UVR2F221MRD6; Manufacturer: Nichicon; TemperatureRange: -40C ~ 85C; Type: Polar; Ripple Current: 770mA; Value: 220uF; PartId: 27480; Supplier 1: Digi-Key; Supplier Part Number 1: 493-1212-ND; ComponentLink1Description: Datasheet; ComponentLink1URL: http://nichicon-us.com/english/products/pdfs/e-uvr.pdf; ComponentLink2Description: Digi-Key Listing; ComponentLink2URL: https://www.digikey.com/product-detail/en/nichicon/UVR2F221MRD6/493-1212-ND/588953; Tolerance: 20%; Voltage: 315V; Price: 3.87; Device Package: Radial, Can, 25mm
footprint CAP AL TH D25 L12.5 H32
pins: 1, 2

## UVR2F331MRD
designator C?, comment 330uF  (value not drawn)
CAP ALUM 330UF 20% 315V RADIAL; Part Number: UVR2F331MRD; Manufacturer: Nichicon; TemperatureRange: -40C ~ 85C; Type: Polar; Ripple Current: 1.25A; Value: 330uF; PartId: 27551; Supplier 1: Digi-Key; Supplier Part Number 1: 493-1213-ND; ComponentLink1Description: Datasheet; ComponentLink1URL: http://nichicon-us.com/english/products/pdfs/e-uvr.pdf; ComponentLink2Description: Digi-Key Listing; ComponentLink2URL: https://www.digikey.com/product-detail/en/nichicon/UVR2F331MRD/493-1213-ND/588954; Tolerance: 20%; Voltage: 315V; Price: 4.35; Device Package: Radial, Can, 25mm
footprint CAP AL TH D25 L12.5 H52
pins: 1, 2

## UVR2F470MHD
designator C?, comment 47uF  (value not drawn)
CAP ALUM 47UF 20% 315V RADIAL; Part Number: UVR2F470MHD; Manufacturer: Nichicon; TemperatureRange: -40C ~ 85C; Type: Polar; Ripple Current: 340mA; Value: 47uF; PartId: 26855; Supplier 1: Digi-Key; Supplier Part Number 1: 493-1209-ND; ComponentLink1Description: Datasheet; ComponentLink1URL: http://nichicon-us.com/english/products/pdfs/e-uvr.pdf; ComponentLink2Description: Digi-Key Listing; ComponentLink2URL: https://www.digikey.com/product-detail/en/nichicon/UVR2F470MHD/493-1209-ND/588950; Tolerance: 20%; Voltage: 315V; Price: 1.16; Device Package: Radial, Can, 16mm
footprint CAP AL TH D16 L7.5 H27
pins: 1, 2

## UVR2G2R2MPD
designator C?, comment 2.2uF  (value not drawn)
CAP ALUM 2.2UF 20% 400V RADIAL; Part Number: UVR2G2R2MPD; Manufacturer: Nichicon; TemperatureRange: -40C ~ 85C; Type: Polar; Ripple Current: 45mA; Value: 2.2uF; PartId: 24689; Supplier 1: Digi-Key; Supplier Part Number 1: 493-1227-ND; ComponentLink1Description: Datasheet; ComponentLink1URL: http://nichicon-us.com/english/products/pdfs/e-uvr.pdf; ComponentLink2Description: Digi-Key Listing; ComponentLink2URL: https://www.digikey.com/product-detail/en/nichicon/UVR2G2R2MPD/493-1227-ND/588968; Tolerance: 20%; Voltage: 400V; Price: 0.35; Device Package: Radial, Can, 10mm
footprint CAP AL TH D10 L5 H14.5
pins: 1, 2

## UVR2G2R2MPD1TD
designator C?, comment 2.2uF  (value not drawn)
CAP ALUM 2.2UF 20% 400V RADIAL; Part Number: UVR2G2R2MPD1TD; Manufacturer: Nichicon; TemperatureRange: -40C ~ 85C; Type: Polar; Ripple Current: 45mA; Value: 2.2uF; PartId: 24497; Supplier 1: Digi-Key; Supplier Part Number 1: 493-12865-3-ND; ComponentLink1Description: Datasheet; ComponentLink1URL: http://nichicon-us.com/english/products/pdfs/e-uvr.pdf; ComponentLink2Description: Digi-Key Listing; ComponentLink2URL: https://www.digikey.com/product-detail/en/nichicon/UVR2G2R2MPD1TD/493-12865-3-ND/4329064; Tolerance: 20%; Voltage: 400V; Price: 0.1084; Device Package: Radial, Can, 10mm
footprint CAP AL TH D10 L5 H14.5
pins: 1, 2

## UVR2G3R3MPD
designator C?, comment 3.3uF  (value not drawn)
CAP ALUM 3.3UF 20% 400V RADIAL; Part Number: UVR2G3R3MPD; Manufacturer: Nichicon; TemperatureRange: -40C ~ 85C; Type: Polar; Ripple Current: 55mA; Value: 3.3uF; PartId: 24906; Supplier 1: Digi-Key; Supplier Part Number 1: 493-1228-ND; ComponentLink1Description: Datasheet; ComponentLink1URL: http://nichicon-us.com/english/products/pdfs/e-uvr.pdf; ComponentLink2Description: Digi-Key Listing; ComponentLink2URL: https://www.digikey.com/product-detail/en/nichicon/UVR2G3R3MPD/493-1228-ND/588969; Tolerance: 20%; Voltage: 400V; Price: 0.49; Device Package: Radial, Can, 10mm
footprint CAP AL TH D10 L5 H14.5
pins: 1, 2

## UVR2G3R3MPD1TD
designator C?, comment 3.3uF  (value not drawn)
CAP ALUM 3.3UF 20% 400V RADIAL; Part Number: UVR2G3R3MPD1TD; Manufacturer: Nichicon; TemperatureRange: -40C ~ 85C; Type: Polar; Ripple Current: 55mA; Value: 3.3uF; PartId: 24562; Supplier 1: Digi-Key; Supplier Part Number 1: 493-12866-3-ND; ComponentLink1Description: Datasheet; ComponentLink1URL: http://nichicon-us.com/english/products/pdfs/e-uvr.pdf; ComponentLink2Description: Digi-Key Listing; ComponentLink2URL: https://www.digikey.com/product-detail/en/nichicon/UVR2G3R3MPD1TD/493-12866-3-ND/4329065; Tolerance: 20%; Voltage: 400V; Price: 0.1534; Device Package: Radial, Can, 10mm
footprint CAP AL TH D10 L5 H14.5
pins: 1, 2

## UVR2G4R7MPD
designator C?, comment 4.7uF  (value not drawn)
CAP ALUM 4.7UF 20% 400V RADIAL; Part Number: UVR2G4R7MPD; Manufacturer: Nichicon; TemperatureRange: -40C ~ 85C; Type: Polar; Ripple Current: 70mA; Value: 4.7uF; PartId: 25170; Supplier 1: Digi-Key; Supplier Part Number 1: 493-1229-ND; ComponentLink1Description: Datasheet; ComponentLink1URL: http://nichicon-us.com/english/products/pdfs/e-uvr.pdf; ComponentLink2Description: Digi-Key Listing; ComponentLink2URL: https://www.digikey.com/product-detail/en/nichicon/UVR2G4R7MPD/493-1229-ND/588970; Tolerance: 20%; Voltage: 400V; Price: 0.45; Device Package: Radial, Can, 10mm
footprint CAP AL TH D10 L5 H17.5
pins: 1, 2

## UVR2G4R7MPD1TD
designator C?, comment 4.7uF  (value not drawn)
CAP ALUM 4.7UF 20% 400V RADIAL; Part Number: UVR2G4R7MPD1TD; Manufacturer: Nichicon; TemperatureRange: -40C ~ 85C; Type: Polar; Ripple Current: 70mA; Value: 4.7uF; PartId: 25007; Supplier 1: Digi-Key; Supplier Part Number 1: 493-12867-3-ND; ComponentLink1Description: Datasheet; ComponentLink1URL: http://nichicon-us.com/english/products/pdfs/e-uvr.pdf; ComponentLink2Description: Digi-Key Listing; ComponentLink2URL: https://www.digikey.com/product-detail/en/nichicon/UVR2G4R7MPD1TD/493-12867-3-ND/4329066; Tolerance: 20%; Voltage: 400V; Price: 0.1538; Device Package: Radial, Can, 10mm
footprint CAP AL TH D10 L5 H17.5
pins: 1, 2

## UVR2G100MHD
designator C?, comment 10uF  (value not drawn)
CAP ALUM 10UF 20% 400V RADIAL; Part Number: UVR2G100MHD; Manufacturer: Nichicon; TemperatureRange: -40C ~ 85C; Type: Polar; Ripple Current: 130mA; Value: 10uF; PartId: 23242; Supplier 1: Digi-Key; Supplier Part Number 1: 493-1230-ND; ComponentLink1Description: Datasheet; ComponentLink1URL: http://nichicon-us.com/english/products/pdfs/e-uvr.pdf; ComponentLink2Description: Digi-Key Listing; ComponentLink2URL: https://www.digikey.com/product-detail/en/nichicon/UVR2G100MHD/493-1230-ND/588971; Tolerance: 20%; Voltage: 400V; Price: 0.69; Device Package: Radial, Can, 12.5mm
footprint CAP AL TH D12.5 L5 H22
pins: 1, 2

## UVR2G100MHD1TO
designator C?, comment 10uF  (value not drawn)
CAP ALUM 10UF 20% 400V RADIAL; Part Number: UVR2G100MHD1TO; Manufacturer: Nichicon; TemperatureRange: -40C ~ 85C; Type: Polar; Ripple Current: 130mA; Value: 10uF; PartId: 23128; Supplier 1: Digi-Key; Supplier Part Number 1: 493-12863-3-ND; ComponentLink1Description: Datasheet; ComponentLink1URL: http://nichicon-us.com/english/products/pdfs/e-uvr.pdf; ComponentLink2Description: Digi-Key Listing; ComponentLink2URL: https://www.digikey.com/product-detail/en/nichicon/UVR2G100MHD1TO/493-12863-3-ND/4329062; Tolerance: 20%; Voltage: 400V; Price: 0.2386; Device Package: Radial, Can, 12.5mm
footprint CAP AL TH D12.5 L5 H22
pins: 1, 2